# Altium footprint library DIP.PcbLib: 3 footprints
Each footprint in its own frame and in the unit in brackets; x right, y up, seen from the top. Pads: shape width x height; smd on the part's side, far side on the other; paste and mask are expansions set on the pad; w line width, h text height; cw(c..) or ccw(c..) is an arc to the next point about the centre after c.
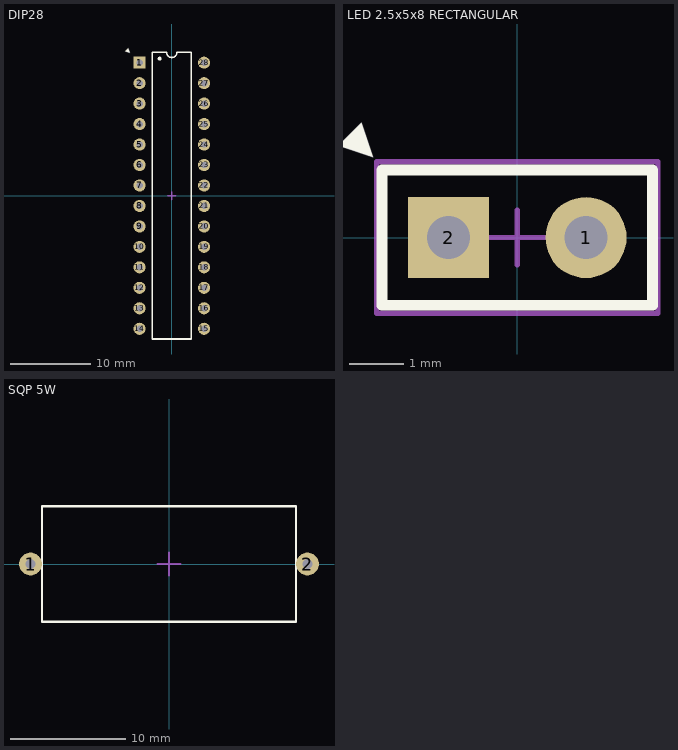
[diagram p0: the footprints below, top view; thin cyan lines are the x and y axes]

## DIP28 [mm]
pads (28):
  rect 1.5x1.5 hole 0.8: 1(-4,16.51)
  round 1.5 hole 0.8: 2(-4,13.97) 3(-4,11.43) 4(-4,8.89) 5(-4,6.35) 6(-4,3.81) 7(-4,1.27) 8(-4,-1.27) 9(-4,-3.81) 10(-4,-6.35) 11(-4,-8.89) 12(-4,-11.43) 13(-4,-13.97) 14(-4,-16.51) 15(4,-16.51) 16(4,-13.97) 17(4,-11.43) 18(4,-8.89) 19(4,-6.35) 20(4,-3.81) 21(4,-1.27) 22(4,1.27) 23(4,3.81) 24(4,6.35) 25(4,8.89) 26(4,11.43) 27(4,13.97) 28(4,16.51)
Top Overlay:
  circle w0.25: c-1.5,17 r0.125
  lines w0.2: -2.415,-17.78 2.415,-17.78 2.415,17.78 0.635,17.78 cw(c0,17.78) -0.635,17.78 -2.415,17.78 -2.415,-17.78
  text "▲" at -5.442,18.442 h1
Top Component Center:
  lines w0.2: -0.5,0 0.5,0 ; 0,-0.5 0,0.5

## LED 2.5x5x8 RECTANGULAR [mm]
pads (2):
  round 1.5 hole 0.8 mask+0.05: 1(1.27,0)
  rect 1.5x1.5 hole 0.8 mask+0.05: 2(-1.27,0)
Top Overlay:
  lines w0.2: -2.5,-1.25 2.5,-1.25 2.5,1.25 -2.5,1.25 -2.5,-1.25
  text "▲" at -2.942,2.192 h1
Top Assembly:
  lines w0.1: -2.5,-1.25 2.5,-1.25 2.5,1.25 -2.5,1.25 -2.5,-1.25
Top Courtyard:
  lines w0.1: -2.6,-1.4 2.6,-1.4 2.6,1.4 -2.6,1.4 -2.6,-1.4
Top Component Center:
  lines w0.1: -0.5,0 0.5,0 ; 0,-0.5 0,0.5
3D body "LED 2.5x5 - Green_cutted.step": height 8.5, standoff -5.1, extent -2.5,-1.25 2.5,1.25

## SQP 5W [mm]
pads (2):
  round 2 hole 0.9 mask+0.05: 1(-12,0) 2(12,0)
Top Overlay:
  lines w0.2: -11,-5 11,-5 11,5 -11,5 -11,-5
Top Component Center:
  lines w0.2: -1,0 1,0 ; 0,-1 0,1
3D body "RES_SQPH_5W_900mil_0R_J(5%).STEP": height 10, standoff -3.6, extent -11.88,-5 11.88,5